# EAGLE library part BC847BS-7-F (library misc)
DUAL NPN SMALL SIGNAL SURFACE MOUNT TRANSISTOR
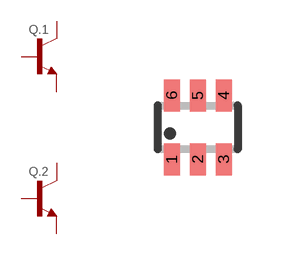
[diagram p89: symbol with the pads of SOT363; footprint SOT363]

Designator prefix Q; gates .1=NPN .2=NPN

## BC847BS-7-F (LCSC#: C156292; MANF: Diodes Incorporated; MANF#: BC847BS-7-F)  [SOT363]
1  .1:E  pas
2  .1:B  pas
3  .2:C  pas
4  .2:E  pas
5  .2:B  pas
6  .1:C  pas

## Footprint SOT363 (pad centres in mm)
Small Outline Transistor; 6 leads Philips Semiconductors, SOT363.pdf
smd 0.4 x 0.8: 1 -0.65,-0.8; 2 0,-0.8; 3 0.65,-0.8; 4 0.65,0.8; 5 0,0.8; 6 -0.65,0.8